# Altium schematic symbol library A7585.SchLib: 1 symbol
Pins are listed as number, name and electrical type; pins without a type are passive.

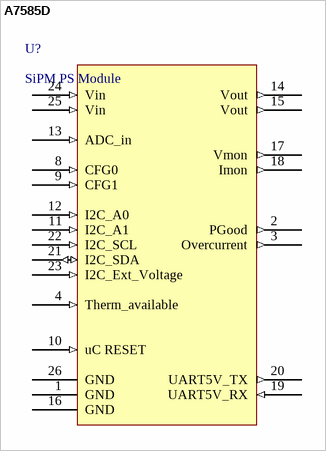
[diagram p0: symbol A7585D]

## A7585D
designator U?, comment SiPM PS Module
CAEN A7585D
footprint A7585D
pins: 1 GND, 2 PGood (out), 3 Overcurrent (out), 4 Therm_available (in), 8 CFG0 (in), 9 CFG1 (in), 10 uC RESET (in), 11 I2C_A1 (in), 12 I2C_A0 (in), 13 ADC_in (in), 14 Vout (out), 15 Vout (out), 16 GND, 17 Vmon (out), 18 Imon (out), 19 UART5V_RX (in), 20 UART5V_TX (out), 21 I2C_SDA (io), 22 I2C_SCL (in), 23 I2C_Ext_Voltage (in), 24 Vin (in), 25 Vin (in), 26 GND